# EAGLE library part TLV2461A_D_8 (library TLV2461)
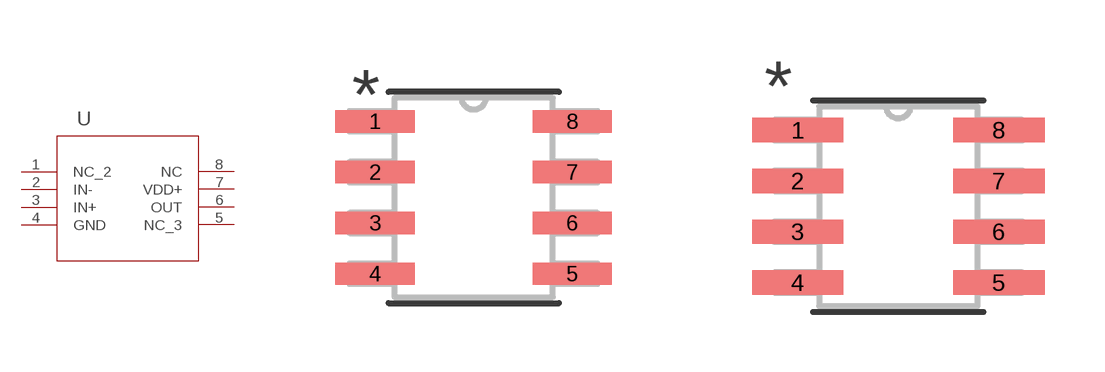
[diagram p0: symbol with the pads of D8; footprints D8, D8-M]

Designator prefix U

## TLV2461A_D_8 (MANUFACTURER_PART_NUMBER: tlv2461a_d_8; VENDOR: Texas Instruments)  [D8]
1  NC_2  nc
2  IN-  in
3  IN+  in
4  GND  pwr
5  NC_3  nc
6  OUT  out
7  VDD+  pwr
8  NC  nc

## TLV2461A_D_8D8-M (MANUFACTURER_PART_NUMBER: tlv2461a_d_8; VENDOR: Texas Instruments)  [D8-M]
Pads as for D8

## TLV2461A_D_8D8-L (MANUFACTURER_PART_NUMBER: tlv2461a_d_8; VENDOR: Texas Instruments)  [D8-L]
Pads as for D8

## Footprint D8 (pad centres in mm)
smd 1.981 x 0.559: 1 -2.464,1.905; 2 -2.464,0.635; 3 -2.464,-0.635; 4 -2.464,-1.905; 5 2.464,-1.905; 6 2.464,-0.635; 7 2.464,0.635; 8 2.464,1.905

## Footprint D8-M (pad centres in mm)
smd 2.286 x 0.61: 1 -2.515,1.905; 2 -2.515,0.635; 3 -2.515,-0.635; 4 -2.515,-1.905; 5 2.515,-1.905; 6 2.515,-0.635; 7 2.515,0.635; 8 2.515,1.905

## Footprint D8-L (pad centres in mm)
smd 1.676 x 0.508: 1 -2.413,1.905; 2 -2.413,0.635; 3 -2.413,-0.635; 4 -2.413,-1.905; 5 2.413,-1.905; 6 2.413,-0.635; 7 2.413,0.635; 8 2.413,1.905